# Altium footprint library MMC5883MA.PcbLib: 1 footprints
Each footprint in its own frame and in the unit in brackets; x right, y up, seen from the top. Pads: shape width x height; smd on the part's side, far side on the other; paste and mask are expansions set on the pad; w line width, h text height; cw(c..) or ccw(c..) is an arc to the next point about the centre after c.
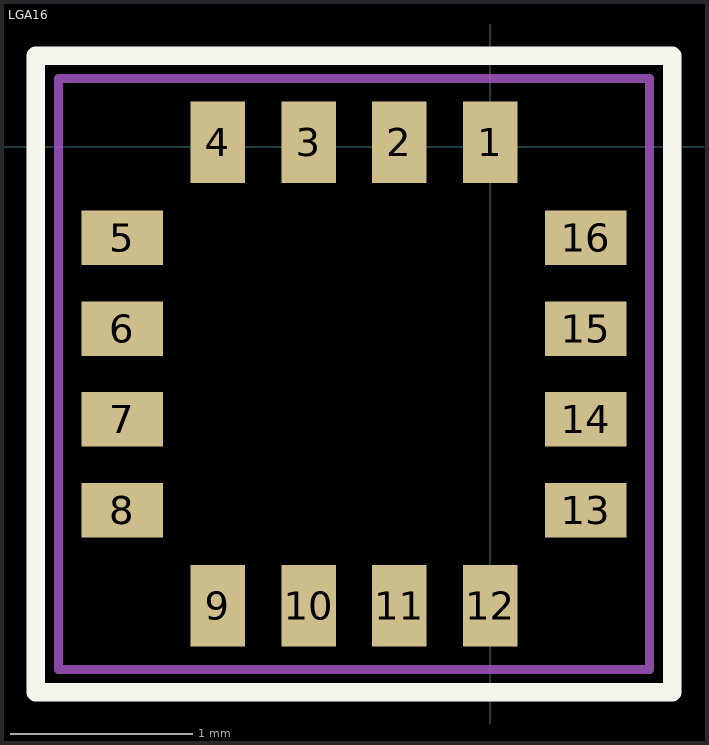
[diagram p0: the footprint, top view; thin cyan lines are the x and y axes]

## LGA16 [mm] "LGA package"
height 1
pads (16):
  rect 0.3x0.45 smd: 1(0,0.025) 2(-0.5,0.025) 3(-1,0.025) 4(-1.5,0.025) 9(-1.5,-2.525) 10(-1,-2.525) 11(-0.5,-2.525) 12(0,-2.525)
  rect 0.45x0.3 smd: 5(-2.025,-0.5) 6(-2.025,-1) 7(-2.025,-1.5) 8(-2.025,-2) 13(0.525,-2) 14(0.525,-1.5) 15(0.525,-1) 16(0.525,-0.5)
Top Overlay:
  lines w0.1: -2.5,-3 -2.5,0.5 1,0.5 1,-3 -2.5,-3
Mechanical 13:
  lines w0.05: -2.375,-2.875 0.875,-2.875 0.875,0.375 -2.375,0.375 -2.375,-2.875
  text ".Designator" at -1.625,-1.5 h0.7